# Altium footprint library SOD323.PcbLib: 1 footprints
Each footprint in its own frame and in the unit in brackets; x right, y up, seen from the top. Pads: shape width x height; smd on the part's side, far side on the other; paste and mask are expansions set on the pad; w line width, h text height; cw(c..) or ccw(c..) is an arc to the next point about the centre after c.
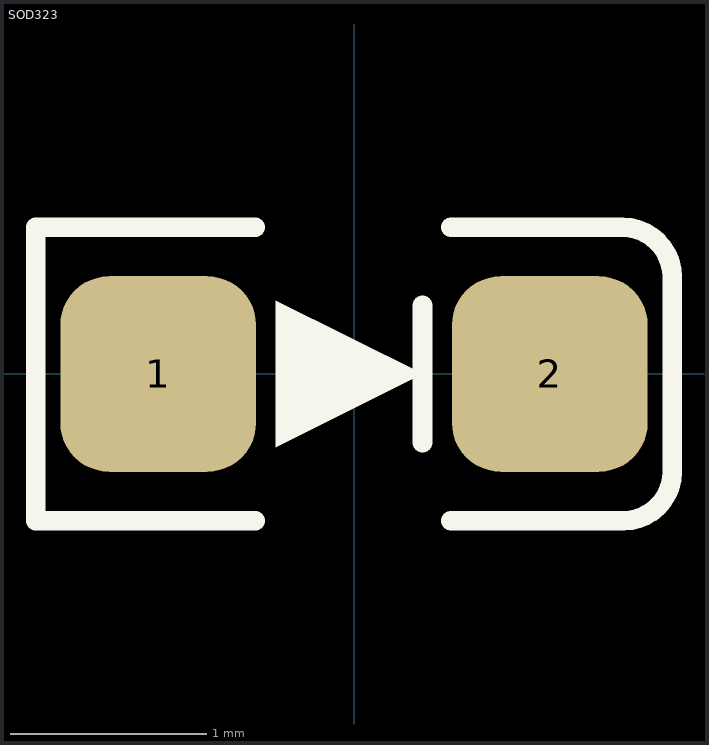
[diagram p0: the footprint, top view; thin cyan lines are the x and y axes]

## SOD323 [mm]
height 1.1
pads (2):
  rrect50% 1x1 smd: 1(-1,0) 2(1,0)
Top Overlay:
  region: -0.4,0.375 0.35,0 -0.4,-0.375
  lines w0.1: -0.505,-0.75 -1.625,-0.75 -1.625,0.75 -0.505,0.75 ; 0.35,-0.35 0.35,0.35 ; 0.495,-0.75 1.37,-0.75 1.375,-0.75 ccw(c1.375,-0.5) 1.625,-0.5 ; 0.495,0.75 1.37,0.75 ; 1.37,0.75 cw(c1.37,0.495) 1.625,0.495 1.625,-0.495
3D body "SOD323.STEP": height 1.1, standoff 0, extent -1.3,-0.675 1.3,0.675